# EAGLE library part 1003-005-22100 (library CONNECTORs)
USB - micro B USB 3.0, Super Speed Receptacle Connector 10 Position Surface Mount, Right Angle, Horizontal
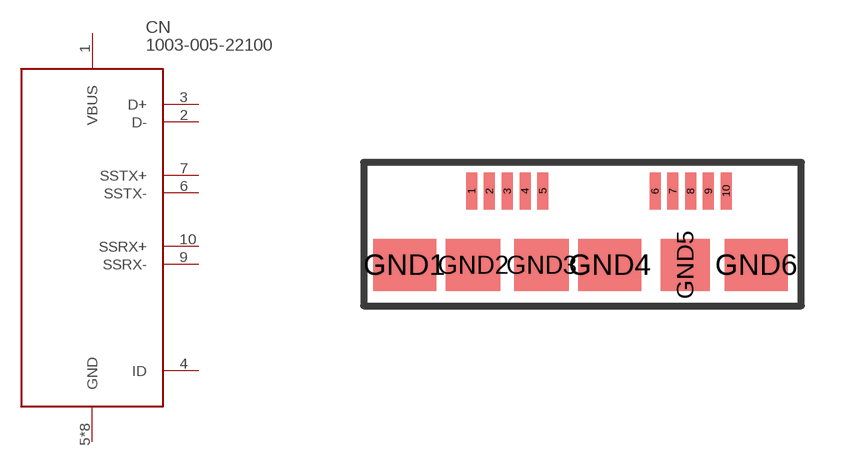
[diagram p23: symbol with the pads of 1003-005-22100; footprint 1003-005-22100]

Designator prefix CN

## 1003-005-22100 (DIGIKEY: 1175-1273-1-ND; PRICE_PER: 1.82; VALUE: USB3 MICRO B)  [1003-005-22100]
1  VBUS
2  D-
3  D+
4  ID
5  GND
6  SSTX-
7  SSTX+
8  GND
9  SSRX-
10  SSRX+
GND1  GND
GND2  GND
GND3  GND
GND4  GND
GND5  GND
GND6  GND

## Footprint 1003-005-22100 (pad centres in mm)
smd 0.4 x 1.35: 1 -1.3,2.7; 2 -0.65,2.7; 3 0,2.7; 4 0.65,2.7; 5 1.3,2.7; 6 5.4,2.7; 7 6.05,2.7; 8 6.7,2.7; 9 7.35,2.7; 10 8,2.7
smd 2.3 x 1.9: GND1 -3.75,0; GND4 3.75,0; GND6 9.1,0
smd 2 x 1.9: GND2 -1.25,0; GND3 1.25,0
smd 1.8 x 1.9: GND5 6.5,0